# EAGLE library part SA3624 (library alchemy)
SA3624 Backlit LCD Key
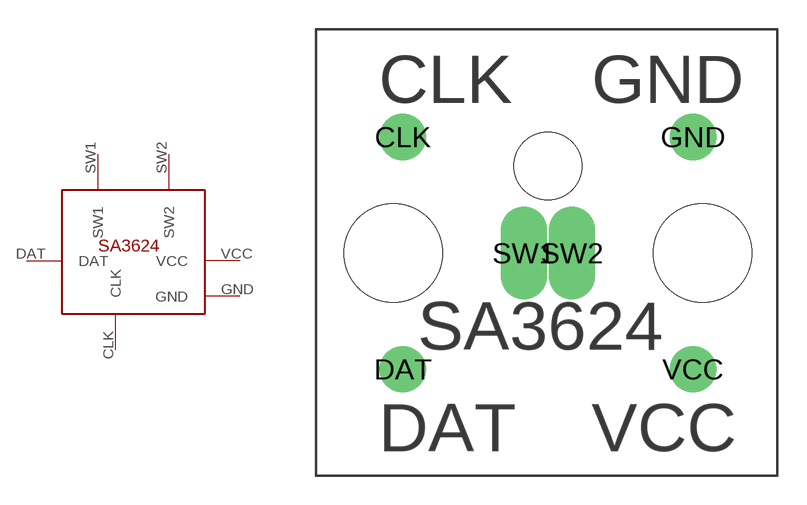
[diagram p1: symbol with the pads of SA3624_SOCKET; footprint SA3624_SOCKET]

Designator prefix SW

## SA3624  [SA3624_SOCKET]
CLK  CLK
DAT  DAT
GND  GND
SW1  SW1
SW2  SW2
VCC  VCC

## Footprint SA3624_SOCKET (pad centres in mm)
SA3624 Backlit LCD Key
drill 1.6: CLK 4.5,17.5; DAT 4.5,5.5; GND 19.5,17.5; VCC 19.5,5.5
drill 1.6 pad 2 long: SW1 10.75,11.5; SW2 13.25,11.5
hole 3.5 at 12,16
hole 5.1 at 4,11.5
hole 5.1 at 20,11.5